# Altium schematic symbol library 元件.SchLib: 12 symbols
Pins are listed as number, name and electrical type; pins without a type are passive.

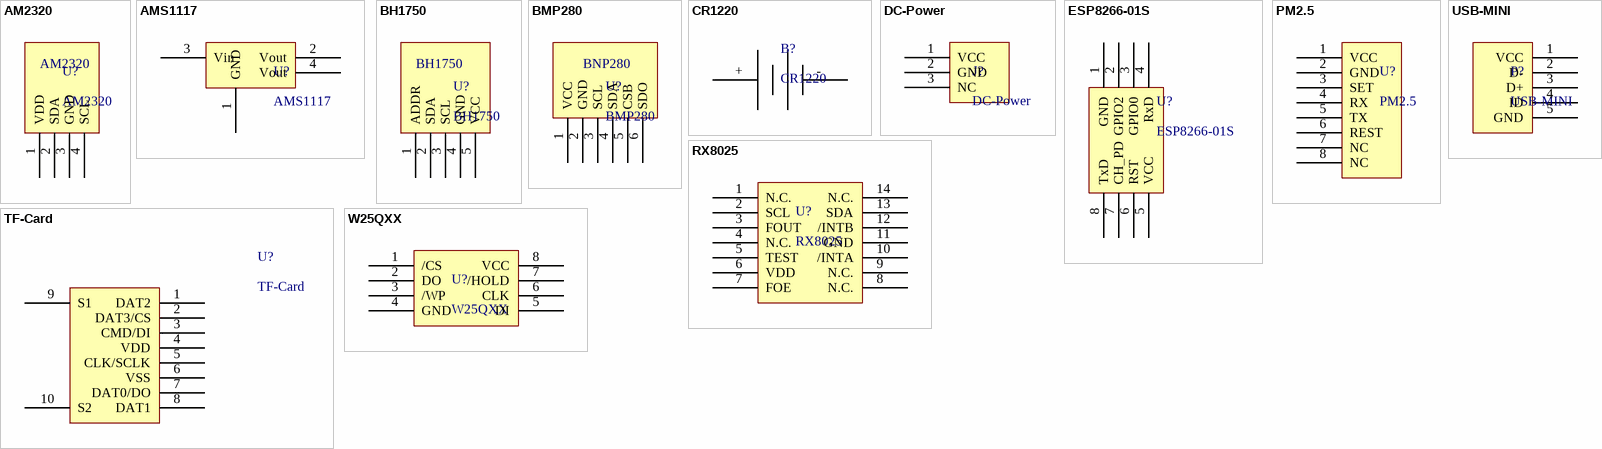
[diagram p0: symbols AM2320 to W25QXX]

## AM2320
designator U?
AM2320温湿度传感器
pins: 1 VDD, 2 SDA, 3 GND, 4 SCL

## AMS1117
designator U?
稳压IC
footprint SOT223
pins: 1 GND, 2 Vout (power), 3 Vin, 4 Vout

## BH1750
designator U?
光照强度传感器
pins: 1 ADDR, 2 SDA, 3 SCL, 4 GND, 5 VCC

## BMP280
designator U?
大气压传感器
pins: 1 VCC, 2 GND, 3 SCL, 4 SDA, 5 CSB, 6 SDO
text: BNP280

## CR1220
designator B?
CR1220电池
footprint CR1220
pins: + 1, - 0

## DC-Power
designator J?
footprint DC-Power
pins: 1 VCC, 2 GND, 3 NC

## ESP8266-01S
designator U?
WIFI模块
footprint ESP-8P
pins: 1 GND, 2 GPIO2, 3 GPIO0, 4 RxD, 5 VCC, 6 RST, 7 CH_PD, 8 TxD

## PM2.5
designator U?
PM2.5传感器
footprint PT-8P
pins: 1 VCC, 2 GND, 3 SET, 4 RX, 5 TX, 6 REST, 7 NC, 8 NC

## RX8025
designator U?
RTC芯片
footprint SOP14
pins: 1 N.C., 2 SCL, 3 FOUT, 4 N.C., 5 TEST, 6 VDD, 7 FOE, 8 N.C., 9 N.C., 10 /INTA, 11 GND, 12 /INTB, 13 SDA, 14 N.C.

## TF-Card
designator U?
TF存储卡
footprint TF-Card
pins: 1 DAT2, 2 DAT3/CS, 3 CMD/DI, 4 VDD, 5 CLK/SCLK, 6 VSS, 7 DAT0/DO, 8 DAT1, 9 S1, 10 S2

## USB-MINI
designator P?
USB接口
footprint USB-MINI
pins: 1 VCC, 2 D-, 3 D+, 4 ID, 5 GND

## W25QXX
designator U?
SPI-Flash
footprint SOIC8
pins: 1 /CS, 2 DO, 3 /WP, 4 GND, 5 DI, 6 CLK, 7 /HOLD, 8 VCC